# Altium footprint library regdecria.PCBLIB: 1 footprints
Each footprint in its own frame and in the unit in brackets; x right, y up, seen from the top. Pads: shape width x height; smd on the part's side, far side on the other; paste and mask are expansions set on the pad; w line width, h text height; cw(c..) or ccw(c..) is an arc to the next point about the centre after c.
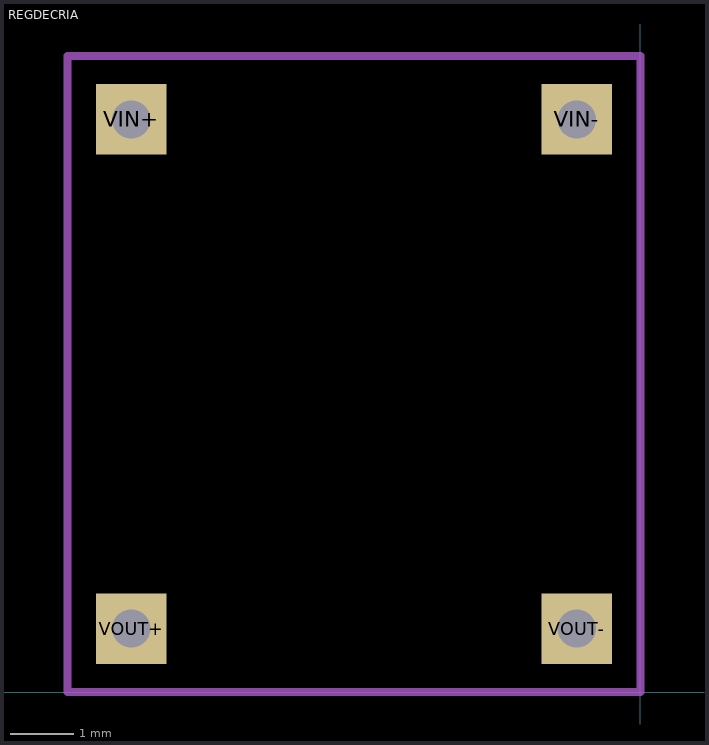
[diagram p0: the footprint, top view; thin cyan lines are the x and y axes]

## REGDECRIA [mm]
pads (4):
  rect 1.108x1.108 / inner round 1.024 / far side rect 1.108x1.108 hole 0.6: VIN+(-8,9) VIN-(-1,9) VOUT+(-8,1) VOUT-(-1,1)
tPlace:
  lines w0.127: -9,0 -9,10 0,10 0,0 -9,0